# Altium footprint library F1_MODULE.PcbLib: 18 footprints (part 2 of 2)
Each footprint in its own frame and in the unit in brackets; x right, y up, seen from the top. Pads: shape width x height; smd on the part's side, far side on the other; paste and mask are expansions set on the pad; w line width, h text height; cw(c..) or ccw(c..) is an arc to the next point about the centre after c.
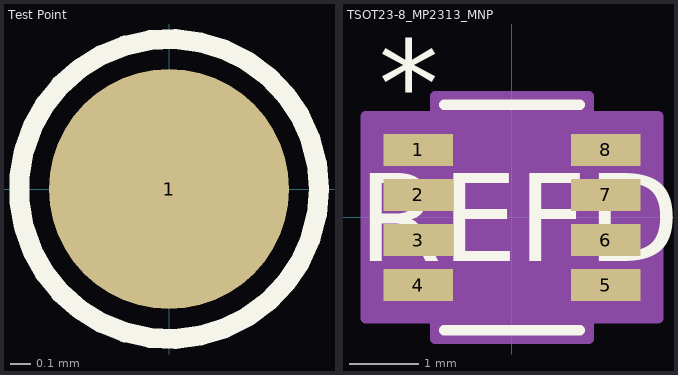
[diagram p1: the footprints below, top view; thin cyan lines are the x and y axes]

## Test Point [mm] "Test Point"
pads (1):
  round 1.2 smd paste-0.6: 1(0,0)
Top Overlay:
  circle w0.1: c0,0 r0.75
3D body: height 0.03, standoff 0, extent -0.6,-0.6 0.6,0.6

## TSOT23-8_MP2313_MNP [mil]
pads (8):
  rect 39.5x18 smd paste+0 mask+0: 1(-53.25,38.39) 2(-53.25,12.8) 3(-53.25,-12.8) 4(-53.25,-38.39) 5(53.25,-38.39) 6(53.25,-12.8) 7(53.25,12.8) 8(53.25,38.39)
Top Overlay:
  lines w6: -38.5,-64 38.5,-64 ; -38.5,64 38.5,64
  text "REFDES" at -87.5,-25 h50
  text "*" at -75.75,51.39 h50
Mechanical 13:
  lines w0: -12,59 ccw(c0,59) 12,59
  lines w1: -59,-46.39 -59,-30.39 -33.5,-30.39 -33.5,-46.39 -59,-46.39 ; -59,-20.8 -59,-4.8 -33.5,-4.8 -33.5,-20.8 -59,-20.8 ; -59,4.8 -59,20.8 -33.5,20.8 -33.5,4.8 -59,4.8 ; -59,30.39 -59,46.39 -33.5,46.39 -33.5,30.39 -59,30.39 ; -33.5,-59 33.5,-59 33.5,59 -33.5,59 -33.5,-59 ; 33.5,-46.39 33.5,-30.39 59,-30.39 59,-46.39 33.5,-46.39 ; 33.5,-20.8 33.5,-4.8 59,-4.8 59,-20.8 33.5,-20.8 ; 33.5,4.8 33.5,20.8 59,20.8 59,4.8 33.5,4.8 ; 33.5,30.39 33.5,46.39 59,46.39 59,30.39 33.5,30.39
  text "*" at -31,6 h50
Mechanical 15:
  region: -43.5,-57.39 -83,-57.39 -83,57.39 -43.5,57.39 -43.5,69 43.5,69 43.5,57.39 83,57.39 83,-57.39 43.5,-57.39 43.5,-69 -43.5,-69
  lines w6: -83,-57.39 -83,57.39 -43.5,57.39 -43.5,69 43.5,69 43.5,57.39 83,57.39 83,-57.39 43.5,-57.39 43.5,-69 -43.5,-69 -43.5,-57.39 -83,-57.39
3D body "TSOT23-8_MP2313_MNP.step": height 39.09, standoff 0, extent -59.02,-59.02 59.02,59.02